# EAGLE library part LP3878 (library rfops)
National Semiconductor Low Noise Regulator LP3878
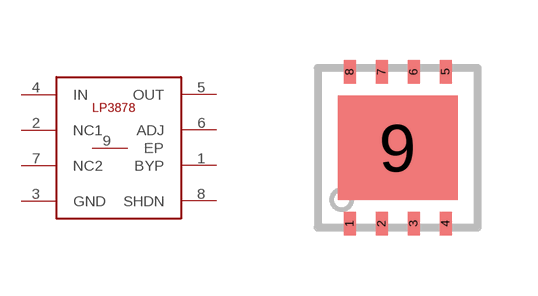
[diagram p0: symbol with the pads of LLP8; footprint LLP8]

Designator prefix IC

## LP3878  [LLP8]
1  BYP  pas
2  NC1  nc
3  GND  pwr
4  IN  in
5  OUT  out
6  ADJ  pas
7  NC2  nc
8  SHDN  in
9  EP  pwr

## Footprint LLP8 (pad centres in mm)
8 Lead LLP package National Semiconductor
smd 0.3 x 0.6: 1 -1.2,-1.9; 2 -0.4,-1.9; 3 0.4,-1.9; 4 1.2,-1.9; 5 1.2,1.9; 6 0.4,1.9; 7 -0.4,1.9; 8 -1.2,1.9
smd 3 x 2.6: 9 0,0